# Altium schematic symbol library AD7801BRUZ.Schlib: 1 symbol
Pins are listed as number, name and electrical type; pins without a type are passive.

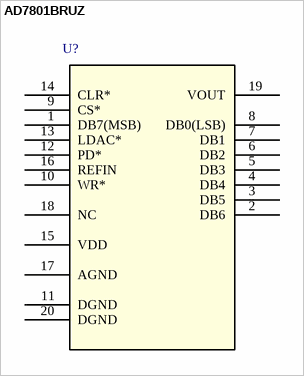
[diagram p0: symbol AD7801BRUZ]

## AD7801BRUZ
designator U?
No Description Available
pins: 1 DB7(MSB), 2 DB6, 3 DB5, 4 DB4, 5 DB3, 6 DB2, 7 DB1, 8 DB0(LSB), 9 CS*, 10 WR*, 11 DGND, 12 PD*, 13 LDAC*, 14 CLR*, 15 VDD (power), 16 REFIN, 17 AGND, 18 NC, 19 VOUT, 20 DGND